# EAGLE library part LT4256 (library lib_ysk)
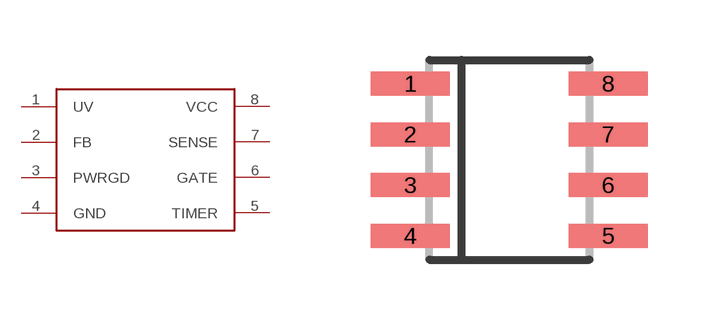
[diagram p0: symbol with the pads of SOIC127P600X175-8; footprint SOIC127P600X175-8]

Designator prefix -

## LT4256  [SOIC127P600X175-8]
1  UV
2  FB
3  PWRGD
4  GND
5  TIMER
6  GATE
7  SENSE
8  VCC

## Footprint SOIC127P600X175-8 (pad centres in mm)
8-SOIC, 1.27 mm pitch, 6.00 mm span, 4.90 X 3.90 X 1.75 mm body 8-pin SOIC package with 1.27 mm pitch, 6.00 mm span with body size 4.90 X 3.90 X 1.75 mm
smd 1.968 x 0.602: 1 -2.473,1.905; 2 -2.473,0.635; 3 -2.473,-0.635; 4 -2.473,-1.905; 5 2.473,-1.905; 6 2.473,-0.635; 7 2.473,0.635; 8 2.473,1.905